# EAGLE library part BQ25750RRVR (library BQ25750RRVR)
Battery Management BQ25750RRVR Source: Datasheet <https://www.ti.com/lit/ds/symlink/bq25750.pdf?ts=1706776852121&ref_url=https%3A%2F%2Fwww.ti.com%2Fproduct%2FBQ25750>
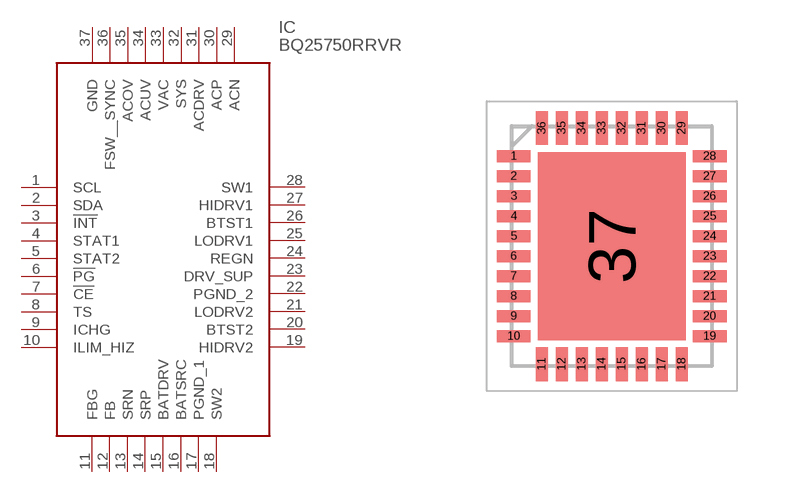
[diagram p0: symbol with the pads of QFN50P500X600X100-37N; footprint QFN50P500X600X100-37N]

Designator prefix IC

## BQ25750RRVR (Description: Battery Management BQ25750RRVR; Height: 1mm; Manufacturer_Name: Texas Instruments; Manufacturer_Part_Number: BQ25750RRVR; Mouser_Part_Number: 595-BQ25750RRVR; Mouser_Price-Stock: https://www.mouser.co.uk/ProductDetail/Texas-Instruments/BQ25750RRVR?qs=mELouGlnn3eHQxcPQTl5Pg%3D%3D)  [QFN50P500X600X100-37N]
1  SCL
2  SDA
3  !INT
4  STAT1
5  STAT2
6  !PG
7  !CE
8  TS
9  ICHG
10  ILIM_HIZ
11  FBG
12  FB
13  SRN
14  SRP
15  BATDRV
16  BATSRC
17  PGND_1
18  SW2
19  HIDRV2
20  BTST2
21  LODRV2
22  PGND_2
23  DRV_SUP
24  REGN
25  LODRV1
26  BTST1
27  HIDRV1
28  SW1
29  ACN
30  ACP
31  ACDRV
32  SYS
33  VAC
34  ACUV
35  ACOV
36  FSW__SYNC
37  GND

## Footprint QFN50P500X600X100-37N (pad centres in mm)
RRV0036A
smd 0.85 x 0.3: 1 -2.45,2.25; 2 -2.45,1.75; 3 -2.45,1.25; 4 -2.45,0.75; 5 -2.45,0.25; 6 -2.45,-0.25; 7 -2.45,-0.75; 8 -2.45,-1.25; 9 -2.45,-1.75; 10 -2.45,-2.25; 19 2.45,-2.25; 20 2.45,-1.75; 21 2.45,-1.25; 22 2.45,-0.75; 23 2.45,-0.25; 24 2.45,0.25; 25 2.45,0.75; 26 2.45,1.25; 27 2.45,1.75; 28 2.45,2.25
smd 0.3 x 0.85: 11 -1.75,-2.95; 12 -1.25,-2.95; 13 -0.75,-2.95; 14 -0.25,-2.95; 15 0.25,-2.95; 16 0.75,-2.95; 17 1.25,-2.95; 18 1.75,-2.95; 29 1.75,2.95; 30 1.25,2.95; 31 0.75,2.95; 32 0.25,2.95; 33 -0.25,2.95; 34 -0.75,2.95; 35 -1.25,2.95; 36 -1.75,2.95
smd 3.7 x 4.7: 37 0,0